# Altium footprint library BC050-10A-K0-0200-0160-0480-LG.PcbLib: 1 footprints
Each footprint in its own frame and in the unit in brackets; x right, y up, seen from the top. Pads: shape width x height; smd on the part's side, far side on the other; paste and mask are expansions set on the pad; w line width, h text height; cw(c..) or ccw(c..) is an arc to the next point about the centre after c.
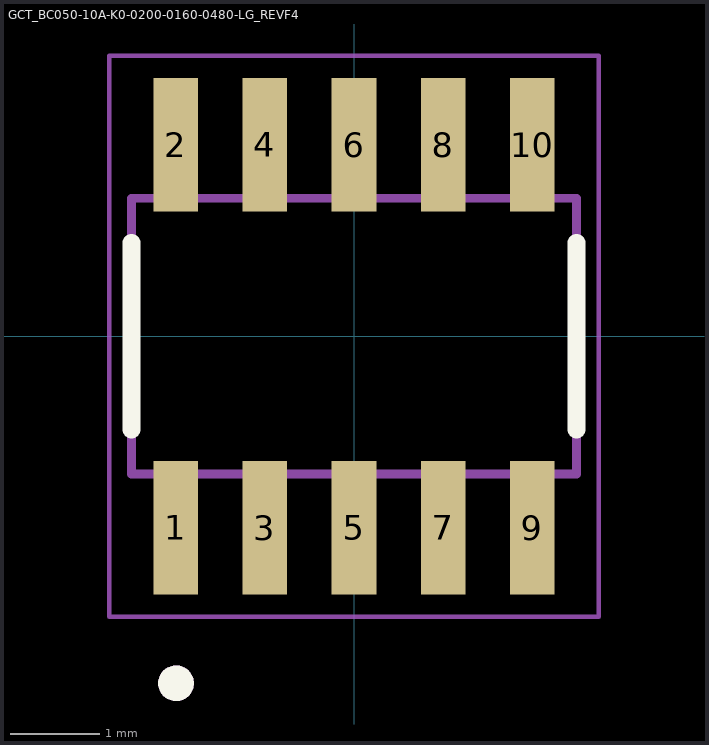
[diagram p0: the footprint, top view; thin cyan lines are the x and y axes]

## GCT_BC050-10A-K0-0200-0160-0480-LG_REVF4 [mm]
pads (10):
  rect 0.5x1.5 smd: 1(-2,-2.15) 2(-2,2.15) 3(-1,-2.15) 4(-1,2.15) 5(0,-2.15) 6(0,2.15) 7(1,-2.15) 8(1,2.15) 9(2,-2.15) 10(2,2.15)
Top Overlay:
  circle w0.2: c-2,-3.9 r0.1
  lines w0.2: -2.5,-1.05 -2.5,1.05 ; 2.5,-1.05 2.5,1.05
Mechanical 13:
  circle w0.2: c-2,-3.9 r0.1
  lines w0.1: -2.5,-1.55 2.5,-1.55 2.5,1.55 -2.5,1.55 -2.5,-1.55
Mechanical 15:
  lines w0.05: -2.75,-3.15 2.75,-3.15 2.75,3.15 -2.75,3.15 -2.75,-3.15